# EAGLE library part MCP4921T-E/SN (library graftel-internal-ic)
12 Bit DAC
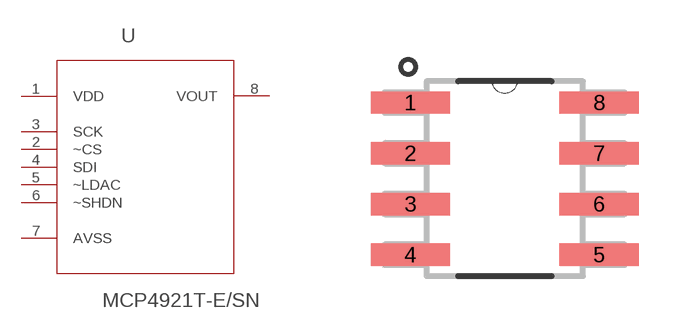
[diagram p50: symbol with the pads of SOIC8-N_MC; footprint SOIC8-N_MC]

Designator prefix U

## MCP4921T-E/SN (AVAILABILITY: Good; DESCRIPTION: MCP4921 Series 1 Ch 12-Bit Voltage Output Digital-to-Analog Converter-SOIC-8; MF: Microchip; MP: MCP4921T-E/SN; PACKAGE: SOIC-8 Microchip; PRICE: 1.74 USD)  [SOIC8-N_MC]
1  VDD  pwr
2  ~CS  in
3  SCK  in
4  SDI  in
5  ~LDAC  in
6  ~SHDN  in
7  AVSS  pwr
8  VOUT  out

## Footprint SOIC8-N_MC (pad centres in mm)
smd 1.981 x 0.559: 1 -2.362,1.905; 2 -2.362,0.635; 3 -2.362,-0.635; 4 -2.362,-1.905; 5 2.362,-1.905; 6 2.362,-0.635; 7 2.362,0.635; 8 2.362,1.905